# Altium integrated library MHSS1104.IntLib: 1 symbol
Pins are listed as number, name and electrical type; pins without a type are passive.

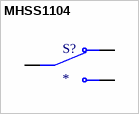
[diagram p0: symbol MHSS1104]

## MHSS1104
designator S?
Slide Switch SPDT Through Hole; MF: APEM Inc.; MP: MHSS1104; Value: *; Availability: In Stock; Price: None; SnapEDA_Link: https://www.snapeda.com/parts/MHSS1104/APEM%20Inc./view-part/428121/?ref=snap; Check_prices: https://www.snapeda.com/parts/MHSS1104/APEM%20Inc./view-part/428121/?ref=eda; Package: None
footprint SW_MHSS1104
pins: 1, 2 1, 3 2, 4 2, 5 3, 6 3